# Altium footprint library fuses.PcbLib: 10 footprints
Each footprint in its own frame and in the unit in brackets; x right, y up, seen from the top. Pads: shape width x height; smd on the part's side, far side on the other; paste and mask are expansions set on the pad; w line width, h text height; cw(c..) or ccw(c..) is an arc to the next point about the centre after c.
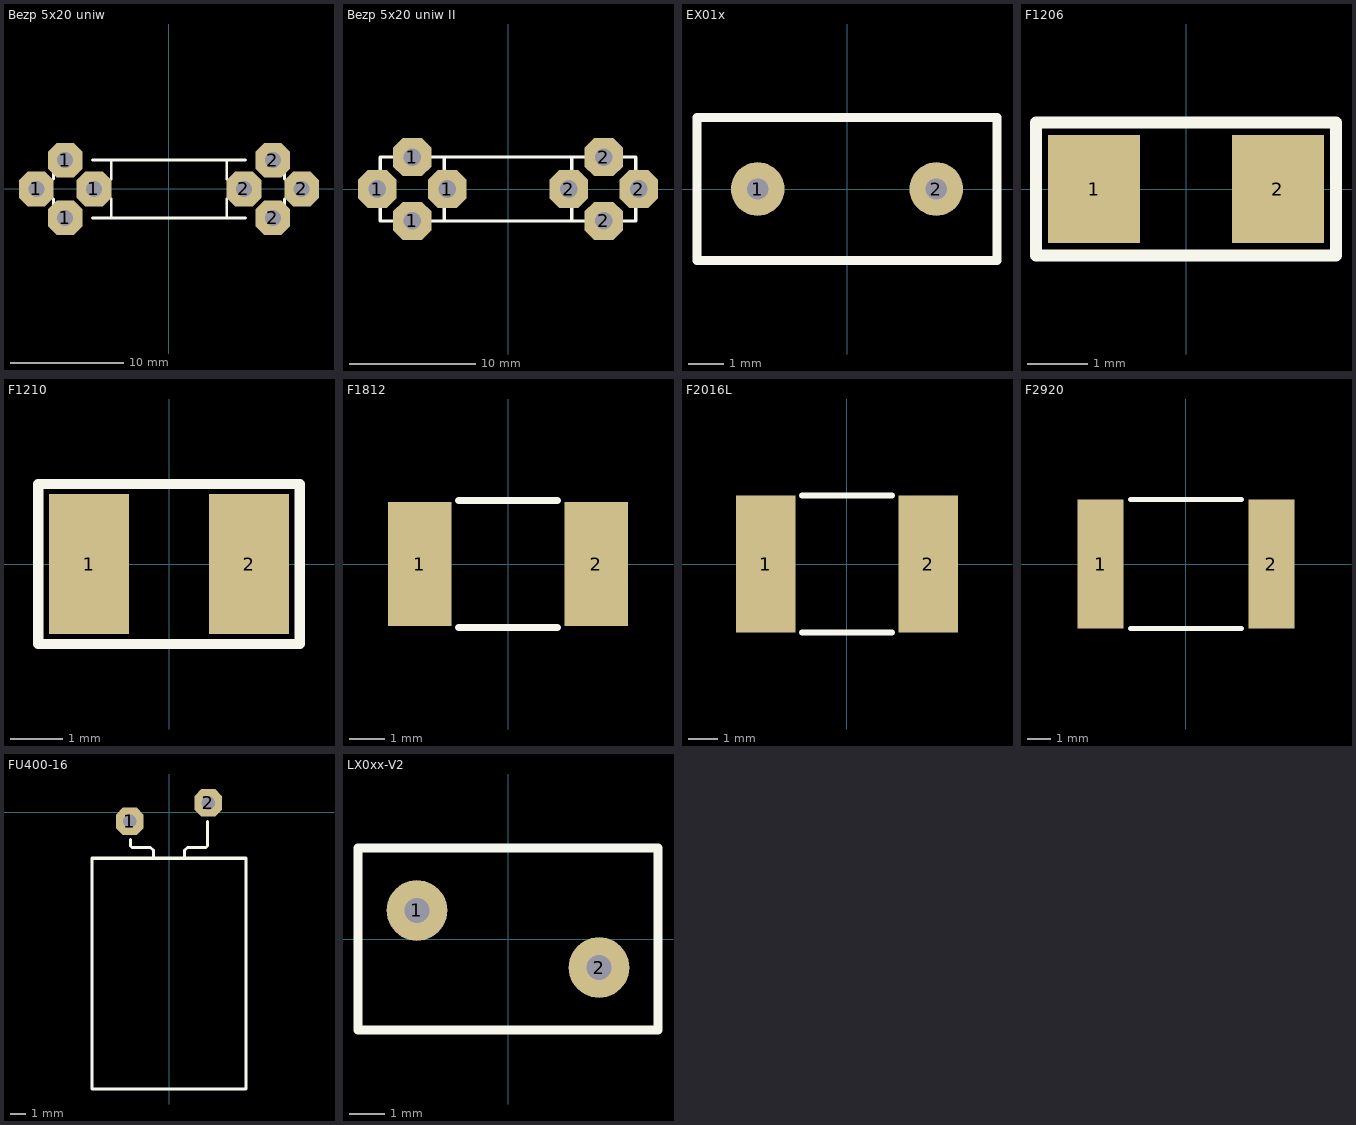
[diagram p0: the footprints below, top view; thin cyan lines are the x and y axes]

## Bezp 5x20 uniw [mil]
pads (8):
  oct 120x120 hole 55.12: 1(-460,0) 1(-360,-100) 1(-360,100) 1(-260,0) 2(260,0) 2(360,-100) 2(360,100) 2(460,0)
Top Overlay:
  lines w10: -400,-35 -400,-100 -335,-100 ; -400,35 -400,100 -335,100 ; -265,-100 265,-100 ; -265,100 265,100 ; -200,-100 -200,-35 ; -200,35 -200,100 ; 200,-100 200,-35 ; 200,35 200,100 ; 335,-100 400,-100 400,-35 ; 335,100 400,100 400,35
3D body "SW3dPS-GN. BEZPIECZNIKA ZHL30.STEP": height 448.82, standoff -77.43, extent -480.31,-185.04 480.32,185.04

## Bezp 5x20 uniw II [mil]
pads (8):
  oct 120x120 hole 55.12: 1(-410,0) 1(-300,-100) 1(-300,100) 1(-190,0) 2(190,0) 2(300,-100) 2(300,100) 2(410,0)
Top Overlay:
  lines w10: -400,-35 -400,-100 -335,-100 ; -400,35 -400,100 -335,100 ; -265,-100 265,-100 ; -265,100 265,100 ; -200,-100 -200,-35 ; -200,35 -200,100 ; 200,-100 200,-35 ; 200,35 200,100 ; 335,-100 400,-100 400,-35 ; 335,100 400,100 400,35
3D body "SW3dPS-Full Fuse.STEP": height 110.5, standoff -397.31, extent -420,-121.85 417.72,121.85

## EX01x [mm] "Radial Leaded Type PTC"
height 13
pads (2):
  round 1.5 hole 0.6: 1(-2.5,0) 2(2.5,0)
Top Overlay:
  lines w0.254: -4.2,-2 -4.2,2 4.2,2 4.2,-2 -4.2,-2
3D body "User Library-mf-rm005.step": height 12.9, standoff -3, extent -4.15,-1.9 4.15,1.9

## F1206 [mil] "1206 Fuse: PTC polymer"
height 45.28
pads (2):
  rect 60x70.87 smd: 1(-60,0) 2(60,0)
Top Overlay:
  lines w7.87: -98,-43.31 98,-43.31 98,43.31 -98,43.31 -98,-43.31
3D body "User Library-nona SMD075F.step": height 22.09, standoff -0.04, extent -63.02,-32.51 63.04,32.52

## F1210 [mil] "1210 Fuse: PTC polymer"
height 45.28
pads (2):
  rect 60x105 smd: 1(-60,0) 2(60,0)
Top Overlay:
  lines w7.87: -98,-60 -98,60 98,60 98,-60 -98,-60
3D body "User Library-Fuse1210.step": height 26.57, standoff 0, extent -63.28,-50.68 63.29,50.69

## F1812 [mm] "2016L PTC Fuse"
height 1.15
pads (2):
  rect 1.8x3.5 smd: 1(-2.5,0) 2(2.5,0)
Top Overlay:
  lines w0.2: -1.4,-1.8 1.4,-1.8 ; -1.4,1.8 1.4,1.8
3D body "User Library-Fuse 1812.step": height 1.03, standoff 0, extent -2.365,-1.74 2.37,1.74

## F2016L [mm] "2016L PTC Fuse"
height 1.15
pads (2):
  rect 2x4.6 smd: 1(-2.72,0) 2(2.72,0)
Top Overlay:
  lines w0.2: -1.5,-2.3 1.5,-2.3 ; -1.5,2.3 1.5,2.3
3D body "User Library-Fuse 2016L.step": height 2.03, standoff 0, extent -2.72,-2.255 2.72,2.255

## F2920 [mm] "2920 size SMD resistor"
height 1.15
pads (2):
  rect 2x5.6 smd: 1(-3.7,0) 2(3.7,0)
Top Overlay:
  lines w0.2: -2.413,-2.794 2.413,-2.794 ; -2.413,2.794 2.413,2.794
3D body "User Library-0ZCF0200AF2C.step": height 0.8, standoff 0, extent -3.99,-2.72 3.99,2.72

## FU400-16 [mm]
height 3
pads (2):
  oct 1.8x1.8 hole 0.9: 1(-2.55,-0.6) 2(2.55,0.6)
Top Overlay:
  lines w0.2: -2.5,-1.8 -2.5,-2.2 -2.4,-2.3 -1.2,-2.3 -1,-2.5 -1,-3 ; 1,-3 1,-2.5 1.2,-2.3 2.4,-2.3 2.5,-2.2 2.5,-0.6 ; -5,-18 -5,-3 5,-3 5,-18 -5,-18
3D body: height 3, standoff 0.2, extent -5,-18 5,-3

## LX0xx-V2 [mm] "Radial Leaded Type PTC"
height 10.7
pads (2):
  round 1.7 hole 0.7: 1(-2.55,0.8) 2(2.55,-0.8)
Top Overlay:
  lines w0.254: -4.2,-2.55 -4.2,2.55 4.2,2.55 4.2,-2.55 -4.2,-2.55
3D body "User Library-mf-rm005.step": height 12.9, standoff -3, extent -4.15,-1.9 4.15,1.9